# Altium schematic symbol library LT8641HUDC.Schlib: 1 symbol
Pins are listed as number, name and electrical type; pins without a type are passive.

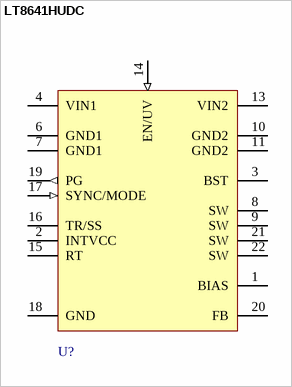
[diagram p0: symbol LT8641HUDC]

## LT8641HUDC
designator U?
65V input, 3.5Amp Switching Voltage Regulator
pins: 1 BIAS (power), 2 INTVCC, 3 BST, 4 VIN1 (power), 6 GND1 (power), 7 GND1 (power), 8 SW (power), 9 SW (power), 10 GND2 (power), 11 GND2 (power), 13 VIN2 (power), 14 EN/UV (in), 15 RT, 16 TR/SS, 17 SYNC/MODE (in), 18 GND (power), 19 PG (out), 20 FB, 21 SW (power), 22 SW (power)